# Altium footprint library SON40P400X100_HS-13N.PcbLib: 1 footprints
Each footprint in its own frame and in the unit in brackets; x right, y up, seen from the top. Pads: shape width x height; smd on the part's side, far side on the other; paste and mask are expansions set on the pad; w line width, h text height; cw(c..) or ccw(c..) is an arc to the next point about the centre after c.
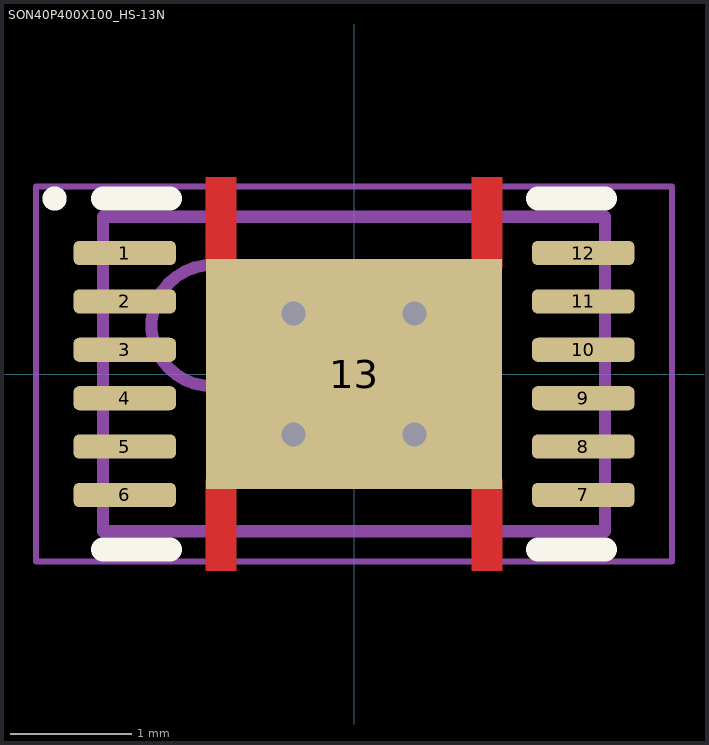
[diagram p0: the footprint, top view; thin cyan lines are the x and y axes]

## SON40P400X100_HS-13N [mm] "SON, 12-Leads, Body 2.50x4.00mm, Pitch 0.40mm, Thermal Pad 2.45x1.90mm, IPC Medium Density"
height 1
pads (13):
  rrect50% 0.85x0.2 smd mask+0.05: 1(-1.895,1) 2(-1.895,0.6) 3(-1.895,0.2) 4(-1.895,-0.2) 5(-1.895,-0.6) 6(-1.895,-1) 7(1.895,-1) 8(1.895,-0.6) 9(1.895,-0.2) 10(1.895,0.2) 11(1.895,0.6) 12(1.895,1)
  rect 2.45x1.9 smd paste-10 mask+0.05: 13(0,0)
via 0.5,-0.5 diameter 0.5 hole 0.2
via -0.5,-0.5 diameter 0.5 hole 0.2
via 0.5,0.5 diameter 0.5 hole 0.2
via -0.5,0.5 diameter 0.5 hole 0.2
Top Layer:
  region: -1.225,-0.875 -1.225,-1.625 -0.975,-1.625 -0.975,-0.875
  region: -1.225,0.875 -1.225,1.625 -0.975,1.625 -0.975,0.875
  region: 1.225,-0.875 1.225,-1.625 0.975,-1.625 0.975,-0.875
  region: 1.225,0.875 1.225,1.625 0.975,1.625 0.975,0.875
Top Overlay:
  circle w0.1: c-2.475,1.45 r0.05
  lines w0.2: -2.075,-1.45 -1.52,-1.45 ; -2.075,1.45 -1.52,1.45 ; 1.52,-1.45 2.075,-1.45 ; 1.52,1.45 2.075,1.45
Top Paste:
  rectangle: 0.2,-0.95 1.175,-0.15
  region: -0.2,-0.15 -1.175,-0.15 -1.175,-0.95 -0.2,-0.95
  region: -0.2,0.95 -1.175,0.95 -1.175,0.15 -0.2,0.15
  rectangle: 0.2,0.15 1.175,0.95
  rectangle: 0.975,1.1 1.225,1.625
  rectangle: -1.225,1.1 -0.975,1.625
  region: -0.975,-1.1 -1.225,-1.1 -1.225,-1.625 -0.975,-1.625
  region: 1.225,-1.1 0.975,-1.1 0.975,-1.625 1.225,-1.625
Top Assembly:
  circle w0.1: c-1.175,0.4 r0.5
  lines w0.1: -2.075,-1.3 -2.075,1.3 2.075,1.3 2.075,-1.3 -2.075,-1.3
Top Courtyard:
  lines w0.05: -2.63,-1.55 -2.63,1.55 2.63,1.55 2.63,-1.55 -2.63,-1.55
  lines w0.1: -0.5,0 0.5,0 ; 0,-0.5 0,0.5
3D body "SON40P400X100_HS-13N.step": height 1, standoff 0, extent -2.085,-1.3 2.085,1.3